# Altium footprint library DUAL_DPAK_4L1 05_10_18.PcbLib: 1 footprints
Each footprint in its own frame and in the unit in brackets; x right, y up, seen from the top. Pads: shape width x height; smd on the part's side, far side on the other; paste and mask are expansions set on the pad; w line width, h text height; cw(c..) or ccw(c..) is an arc to the next point about the centre after c.
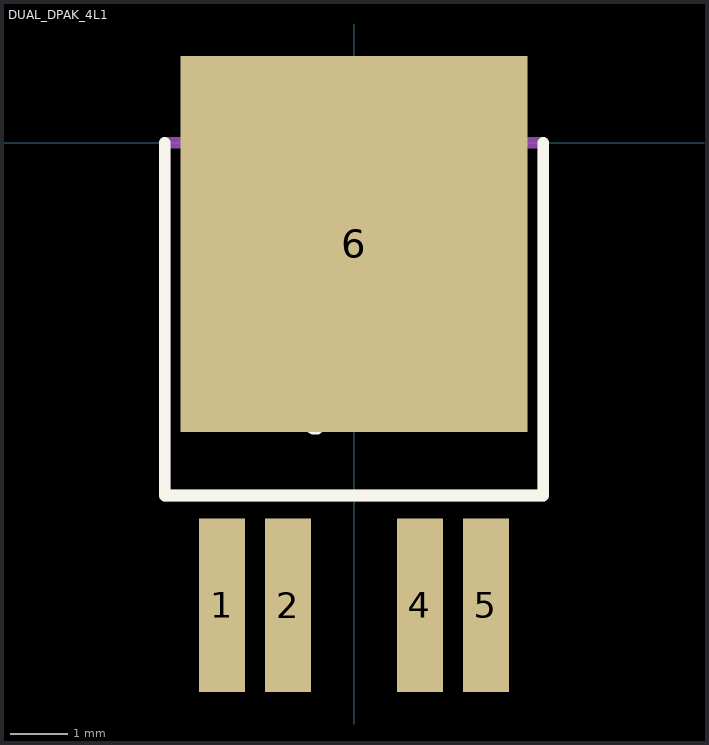
[diagram p0: the footprint, top view; thin cyan lines are the x and y axes]

## DUAL_DPAK_4L1 [mm]
pads (5):
  rect 0.8x3 smd: 1(-2.28,-8) 2(-1.14,-8) 4(1.14,-8) 5(2.28,-8)
  rect 6x6.5 smd: 6(0,-1.75)
L26-Silk Screen Top (Multiple PADS layers...):
  circle w0.2: c-0.676,-4.848 r0.101
  lines w0.2: -3.27,0 -3.27,-6.1 3.27,-6.1 3.27,0
L15 (Multiple PADS layers...):
  lines w0.2: -3.27,-6.1 3.27,-6.1 3.27,0 -3.27,0 -3.27,-6.1